# Altium schematic symbol library 308_socet.SchLib: 7 symbols
Pins are listed as number, name and electrical type; pins without a type are passive.

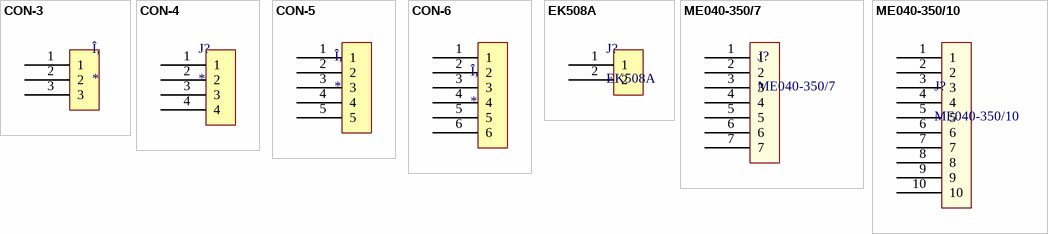
[diagram p0: symbols CON-3 to ME040-350/10]

## CON-3
designator Î,
footprint CON_3_5.08
pins: 1, 2, 3

## CON-4
designator J?
footprint CON_4_5.08
pins: 1, 2, 3, 4

## CON-5
designator Î,
footprint CON_5_5.08
pins: 1, 2, 3, 4, 5

## CON-6
designator Î,
footprint CON_6_5.08
pins: 1, 2, 3, 4, 5, 6

## EK508A
designator J?
footprint CON_2_5.08
pins: 1, 2

## ME040-350/7
designator J?
DECA
footprint CON-7-2.56
pins: 1, 2, 3, 4, 5, 6, 7

## ME040-350/10
designator J? 
DECA
footprint CON-10-2.56
pins: 1, 2, 3, 4, 5, 6, 7, 8, 9, 10